# Altium footprint library lab3.PcbLib: 5 footprints
Each footprint in its own frame and in the unit in brackets; x right, y up, seen from the top. Pads: shape width x height; smd on the part's side, far side on the other; paste and mask are expansions set on the pad; w line width, h text height; cw(c..) or ccw(c..) is an arc to the next point about the centre after c.
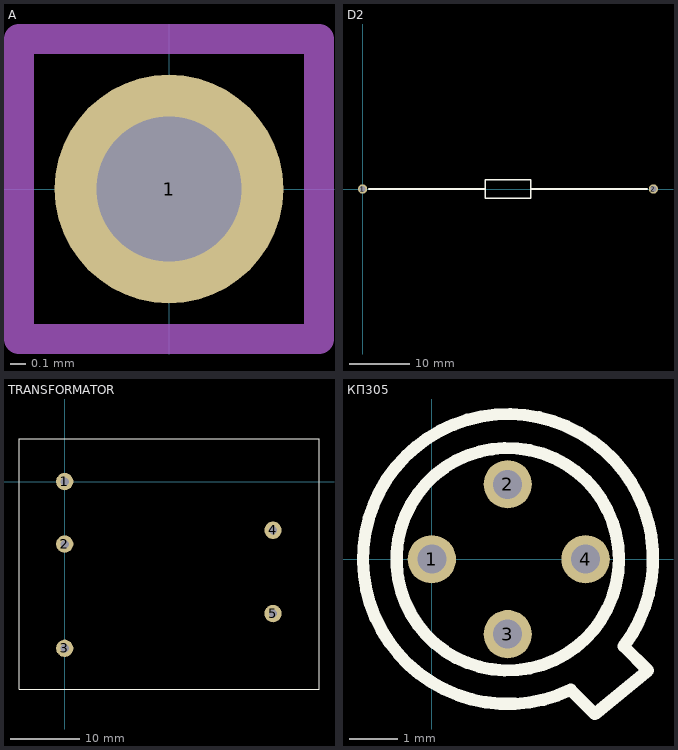
[diagram p0: the footprints below, top view; thin cyan lines are the x and y axes]

## A [mil]
pads (1):
  round 60 hole 38: 1(0,0)
Mechanical 1:
  lines w7.87: -39.37,-39.37 39.37,-39.37 39.37,39.37 -39.37,39.37 -39.37,-39.37

## D2 [mil]
pads (2):
  round 60 hole 38: 1(0,0) 2(1889.76,0)
Top Overlay:
  lines w10: 39.37,0 797.24,0 ; 1092.52,0 1850.39,0 ; 797.24,-59.06 1092.52,-59.06 1092.52,59.06 797.24,59.06 797.24,-59.06

## PCBComponent_1 [mm]

## TRANSFORMATOR [mm]
pads (5):
  round 2.5 hole 1.2: 1(0,0) 2(0,-9) 3(0,-24) 4(30,-7) 5(30,-19)
Top Overlay:
  lines w0.1: -6.58,-29.86 36.62,-29.86 36.62,6.14 -6.58,6.14 -6.58,-29.86

## КП305 [mm]
pads (4):
  round 1 hole 0.6: 1(0,0) 2(1.57,1.55) 3(1.57,-1.55) 4(3.18,0)
Top Overlay:
  circle w0.254: c1.57,0 r2.3
  lines w0.254: 2.87,-2.7 3.37,-3.2 4.47,-2.3 3.97,-1.8 ccw(c1.575,0.004) 2.871,-2.7